# Altium footprint library buk9230.PcbLib: 1 footprints
Each footprint in its own frame and in the unit in brackets; x right, y up, seen from the top. Pads: shape width x height; smd on the part's side, far side on the other; paste and mask are expansions set on the pad; w line width, h text height; cw(c..) or ccw(c..) is an arc to the next point about the centre after c.
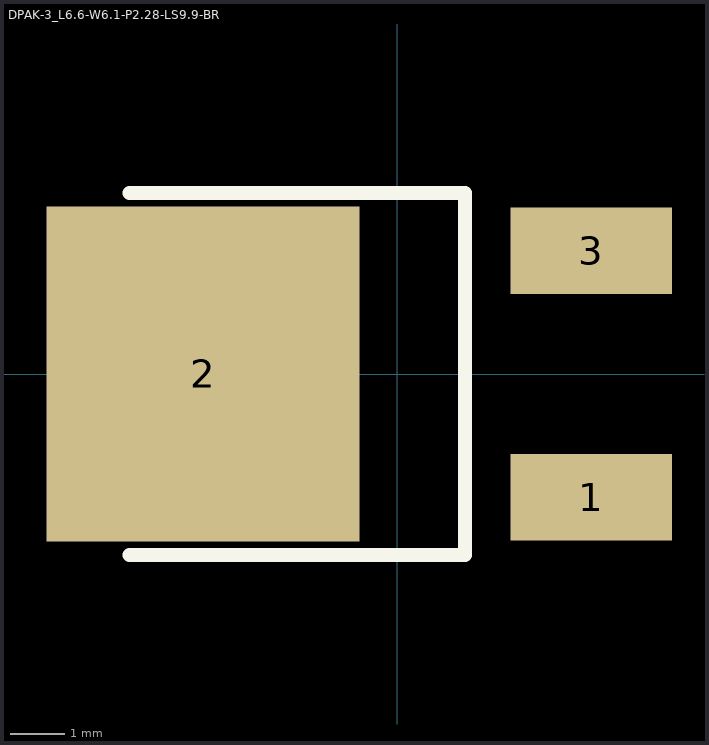
[diagram p0: the footprint, top view; thin cyan lines are the x and y axes]

## DPAK-3_L6.6-W6.1-P2.28-LS9.9-BR [mil]
pads (3):
  rect 118.1x63 smd: 1(141.51,-90) 3(141.51,90)
  rect 228.25x244.15 smd: 2(-141.51,0.03)
Top Overlay:
  lines w10: -195.54,-132 49.46,-132 49.46,132 -195.54,132